# Altium footprint library PcbLib1.PcbLib: 3 footprints
Each footprint in its own frame and in the unit in brackets; x right, y up, seen from the top. Pads: shape width x height; smd on the part's side, far side on the other; paste and mask are expansions set on the pad; w line width, h text height; cw(c..) or ccw(c..) is an arc to the next point about the centre after c.
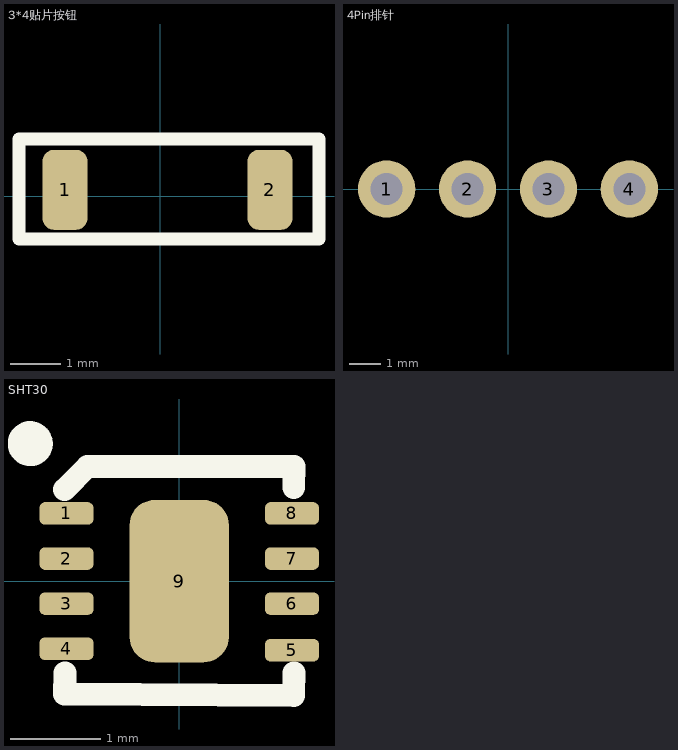
[diagram p0: the footprints below, top view; thin cyan lines are the x and y axes]

## 3*4贴片按钮 [mm]
pads (2):
  rrect50% 0.9x1.6 smd: 1(-1.905,0.127) 2(2.195,0.127)
Top Overlay:
  lines w0.254: -2.825,-0.857 3.175,-0.857 3.175,1.143 -2.825,1.143 -2.825,-0.857
3D body: height 0.25, standoff 0, extent -2.794,-0.889 3.175,1.143

## 4Pin排针 [mm]
pads (4):
  round 1.8 hole 1: 1(-3.81,0) 2(-1.27,0) 3(1.27,0) 4(3.81,0)
3D body: height 0.25, standoff 0, extent -5.207,-1.27 5.207,1.27

## SHT30 [mm]
pads (9):
  rrect50% 0.6x0.25 smd: 1(-1.25,0.75) 2(-1.25,0.25) 3(-1.25,-0.25) 4(-1.25,-0.75) 5(1.25,-0.766) 6(1.25,-0.25) 7(1.25,0.25) 8(1.25,0.75)
  rrect50% 1.1x1.8 smd: 9(0,0)
Top Overlay:
  circle w0.25: c-1.651,1.524 r0.125
  lines w0.254: -1.27,1.016 -1.016,1.27 1.25,1.27 ; -1.268,-1.016 -1.27,-1.25 1.27,-1.27 ; 1.27,-1.25 1.272,-1.016 ; 1.27,1.036 1.272,1.27
3D body: height 0.25, standoff 0, extent -1.27,-1.27 1.27,1.27